# Altium footprint library ADA_DRV2605L.PcbLib: 1 footprints
Each footprint in its own frame and in the unit in brackets; x right, y up, seen from the top. Pads: shape width x height; smd on the part's side, far side on the other; paste and mask are expansions set on the pad; w line width, h text height; cw(c..) or ccw(c..) is an arc to the next point about the centre after c.
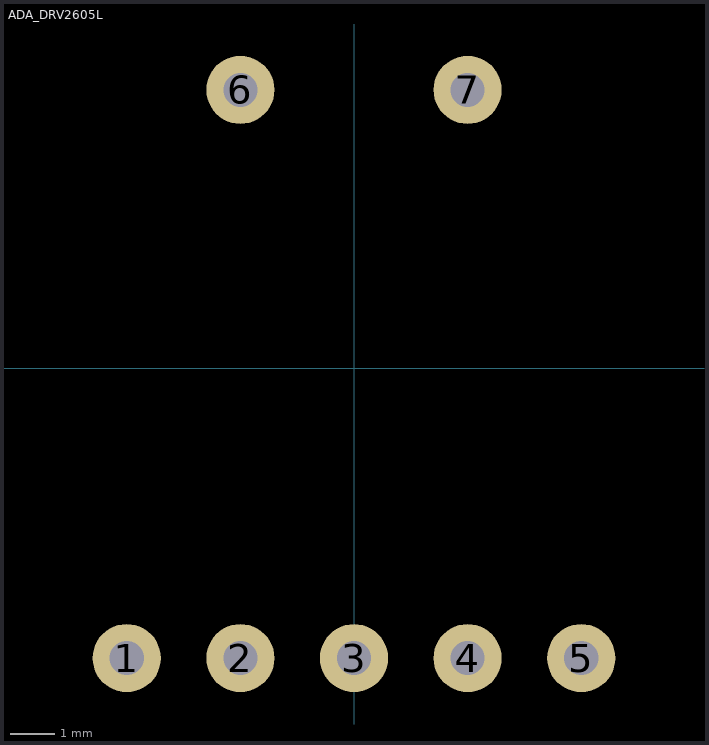
[diagram p0: the footprint, top view; thin cyan lines are the x and y axes]

## ADA_DRV2605L [mil]
pads (7):
  round 60 hole 30: 1(-200,-255) 2(-100,-255) 3(0,-255) 4(100,-255) 5(200,-255) 6(-100,245) 7(100,245)
3D body "2305 DRV2605L.step": height 105.12, standoff 0, extent -350,-325 350,325